# Altium footprint library VNH5019.PcbLib: 1 footprints
Each footprint in its own frame and in the unit in brackets; x right, y up, seen from the top. Pads: shape width x height; smd on the part's side, far side on the other; paste and mask are expansions set on the pad; w line width, h text height; cw(c..) or ccw(c..) is an arc to the next point about the centre after c.
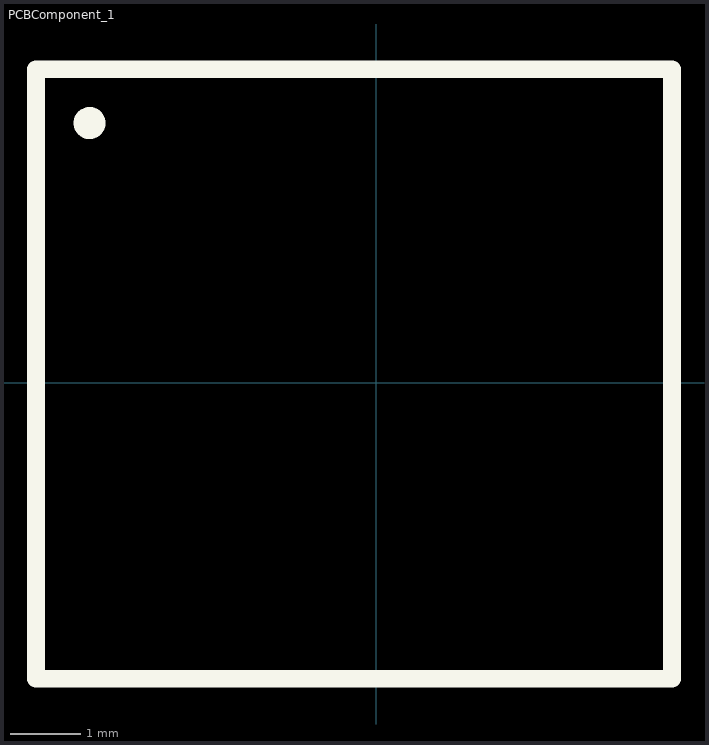
[diagram p0: the footprint, top view; thin cyan lines are the x and y axes]

## PCBComponent_1 [mm]
Top Overlay:
  circle w0.254: c-4.064,3.683 r0.1
  lines w0.254: -4.826,-4.191 4.191,-4.191 4.191,4.445 -4.826,4.445 -4.826,-4.191